# Altium schematic symbol library BH1730FVC-TR.SchLib: 1 symbol
Pins are listed as number, name and electrical type; pins without a type are passive.

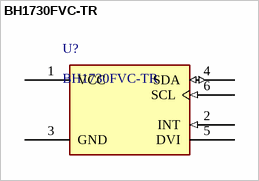
[diagram p0: symbol BH1730FVC-TR]

## BH1730FVC-TR
designator U?
Digital output type ambient light sensor IC is composed of photodiodes, current-voltage converter circuit, A / D converter, control logic circuits, interface circuits and etc. It connects with I²C Bus in an equipment; Mfr_Name: ROHM Semiconductor; Copyright: Copyright (C) 2024 Ultra Librarian. All rights reserved.; Manufacturer_Part_Number: BH1730FVC-TR; RefDes: RefDes; Type: DEV; Supplier 1: Digikey; Supplier Part Number 1: BH1730FVCCT-ND
footprint SON_30FVC-TR_ROM
pins: 1 VCC (power), 2 INT (in), 3 GND (power), 4 SDA (io), 5 DVI, 6 SCL (in)